# EAGLE library part STM32F030F4 (library stm32f030f4)
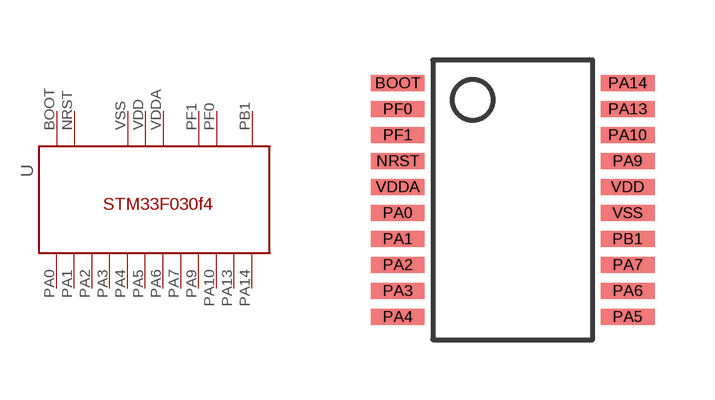
[diagram p0: symbol with the pads of STM32F030F4; footprint STM32F030F4]

Designator prefix -

## STM32F030F4  [STM32F030F4]
BOOT  BOOT
NRST  NRST
PA0  PA0
PA1  PA1
PA2  PA2
PA3  PA3
PA4  PA4
PA5  PA5
PA6  PA6
PA7  PA7
PA9  PA9
PA10  PA10
PA13  PA13
PA14  PA14
PB1  PB1
PF0  PF0
PF1  PF1
VDD  VDD
VDDA  VDDA
VSS  VSS

## Footprint STM32F030F4 (pad centres in mm)
smd 1.35 x 0.4: BOOT -2.875,2.925; NRST -2.875,0.975; PA0 -2.875,-0.325; PA1 -2.875,-0.975; PA2 -2.875,-1.625; PA3 -2.875,-2.275; PA4 -2.875,-2.925; PA5 2.875,-2.925; PA6 2.875,-2.275; PA7 2.875,-1.625; PA9 2.875,0.975; PA10 2.875,1.625; PA13 2.875,2.275; PA14 2.875,2.925; PB1 2.875,-0.975; PF0 -2.875,2.275; PF1 -2.875,1.625; VDD 2.875,0.325; VDDA -2.875,0.325; VSS 2.875,-0.325